# Altium schematic symbol library isolator.SchLib: 7 symbols
Pins are listed as number, name and electrical type; pins without a type are passive.

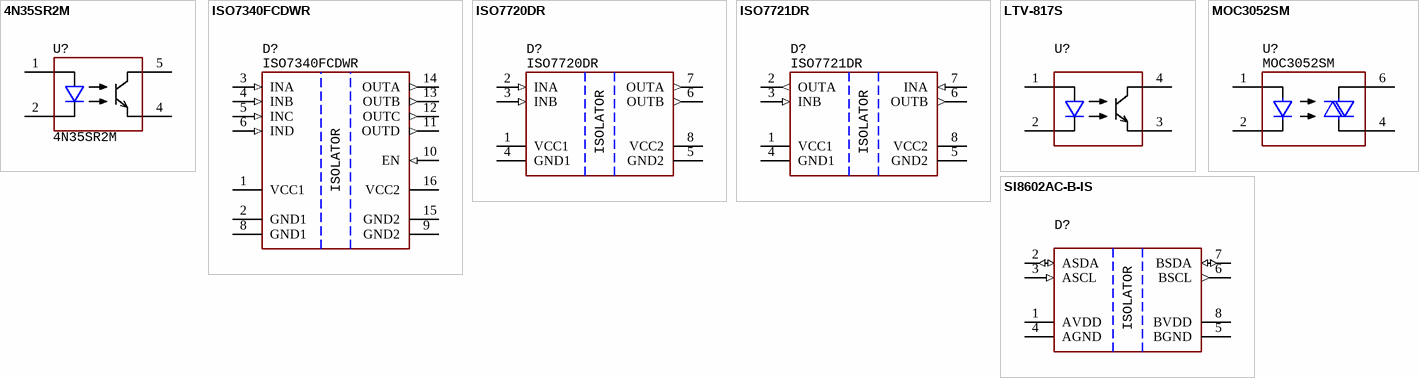
[diagram p0: symbols 4N35SR2M to SI8602AC-B-IS]

## 4N35SR2M
designator U?
NPN, 30V, 60mA led, SMD-6, -55...+150°C; Manufacturer: ON Semiconductor; HelpURL: https://eu.mouser.com/ProductDetail/onsemi-Fairchild/4N35SR2M?qs=tAvf9WkFBTWTJklqttXbYg%3D%3D; PartNumber: 4N35SR2M
footprint 6-SMD
pins: 1 A, 2 K, 4 E, 5 C

## ISO7340FCDWR
designator D?
Digital isolator 4/0, 25 Mb/s, 3000 Vrms, SOIC-16, 32 ns, -40...+125°C; Manufacure: Texas Instruments; HelpURL: https://eu.mouser.com/ProductDetail/Texas-Instruments/ISO7340FCDWR?qs=pqSajtDZXRVhotgSPSKi0Q%3D%3D; Package: TSSOP-16; PartNumber: ISO7340FCDWR
footprint 16-TSSOP (pitch 1.27 mm)
pins: 1 VCC1 (power), 2 GND1 (power), 3 INA (in), 4 INB (in), 5 INC (in), 6 IND (in), 8 GND1 (power), 9 GND2 (power), 10 EN (in), 11 OUTD (out), 12 OUTC (out), 13 OUTB (out), 14 OUTA (out), 15 GND2 (power), 16 VCC2 (power)
text: ISOLATOR

## ISO7720DR
designator D?
Digital isolator 2/0, 100 Mb/s, 3000 Vrms, SOIC-8, 32 ns, -55...+125°C; Manufacture: Texas Instruments; HelpURL: https://eu.mouser.com/ProductDetail/Texas-Instruments/ISO7720DR?qs=0C8XhJW8e4qwiRfJFoWeGQ%3D%3D; Package: SOIC-8; PartNumber: ISO7720DR
footprint 8-SOIC (pitch 1.27 mm)
pins: 1 VCC1, 2 INA (in), 3 INB (in), 4 GND1, 5 GND2, 6 OUTB (out), 7 OUTA (out), 8 VCC2
text: ISOLATOR

## ISO7721DR
designator D?
Digital isolator 1/1, 100 Mb/s, 3000 Vrms, SOIC-8, 32 ns, -55...+125°C; Manufacture: Texas Instruments; HelpURL: https://eu.mouser.com/ProductDetail/Texas-Instruments/ISO7721DR?qs=0C8XhJW8e4pvzxoLtrI8OQ%3D%3D; Package: SOIC-8; PartNumber: ISO7721DR
footprint 8-SOIC (pitch 1.27 mm)
pins: 1 VCC1, 2 OUTA (out), 3 INB (in), 4 GND1, 5 GND2, 6 OUTB (out), 7 INA (in), 8 VCC2
text: ISOLATOR

## LTV-817S
designator U?  (value not drawn)
Optoisolator, 35V, 50 mA, 5000 Vrms, 18 us, SMD-4, 55...+125°C; Manufacture: Lite-On; PartNumber: LTV-817S; HelpURL: https://eu.mouser.com/ProductDetail/Lite-On/LTV-817S?qs=XpF7qU%252BvLkWYeWEC0OckNQ%3D%3D; Package: SMD-4
footprint 4-SMD (SOIC, 4-Leads, Body 4,60x6,50mm, Pitch 1,27mm, IPC Medium Density)
pins: 1 A, 2 C, 3 E, 4 C

## MOC3052SM
designator U?
SCR driver, 600V, 60 mA, 5250 Vrms, SMD-6, 55...+125°C; Manufacture: ON Semiconductor; HelpURL: https://eu.mouser.com/ProductDetail/onsemi-Fairchild/MOC3052SM?qs=bfRUmXT2lZin6qJ6enVt0Q%3D%3D; Package: SMD-6; PartNumber: MOC3052SM
footprint 6-SMD (pitch 2.54 mm)
pins: 1 A, 2 C, 4 A1, 6 A2

## SI8602AC-B-IS
designator D?  (value not drawn)
Isolator I2C, 10 Mb/s, 3750 Vrms, supply 3...5.5V, SOIC-8, 38 ns, -55...+125°C
footprint 8-SOIC (pitch 1.27 mm)
pins: 1 AVDD, 2 ASDA (io), 3 ASCL (in), 4 AGND, 5 BGND, 6 BSCL (out), 7 BSDA (io), 8 BVDD
text: ISOLATOR